# Altium footprint library SOT23-3.PcbLib: 1 footprints
Each footprint in its own frame and in the unit in brackets; x right, y up, seen from the top. Pads: shape width x height; smd on the part's side, far side on the other; paste and mask are expansions set on the pad; w line width, h text height; cw(c..) or ccw(c..) is an arc to the next point about the centre after c.
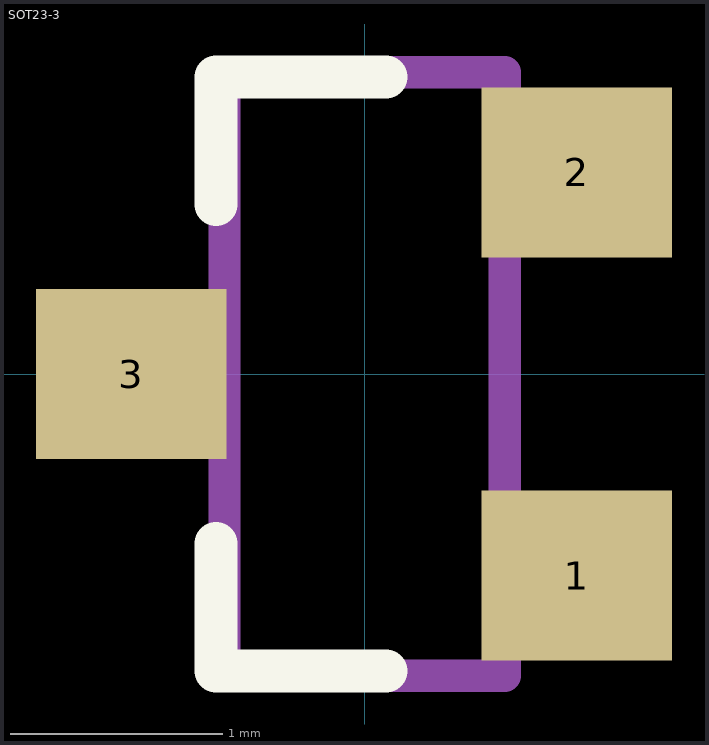
[diagram p0: the footprint, top view; thin cyan lines are the x and y axes]

## SOT23-3 [mm]
pads (3):
  rect 0.9x0.8 smd: 1(1,-0.95) 2(1,0.95) 3(-1.1,0)
Top Overlay:
  lines w0.203: -0.7,-0.8 -0.7,-1.4 0.1,-1.4 ; -0.7,0.8 -0.7,1.4 0.1,1.4
Mechanical 13:
  lines w0.152: -0.66,-1.422 0.66,-1.422 0.66,1.422 -0.66,1.422 -0.66,-1.422
3D body "step_temp.STEP": height 1.25, standoff 0, extent -1.4,-1.45 1.4,1.45